# Altium schematic symbol library SCH - PASSIVES - THERMISTOR PTC.SCHLIB: 1 symbol
Pins are listed as number, name and electrical type; pins without a type are passive.

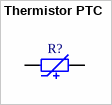
[diagram p0: symbol Thermistor PTC]

## Thermistor PTC
designator R?
SMT Resistor
pins: 1, 2